# Altium schematic symbol library Components.SchLib: 47 symbols
Pins are listed as number, name and electrical type; pins without a type are passive.

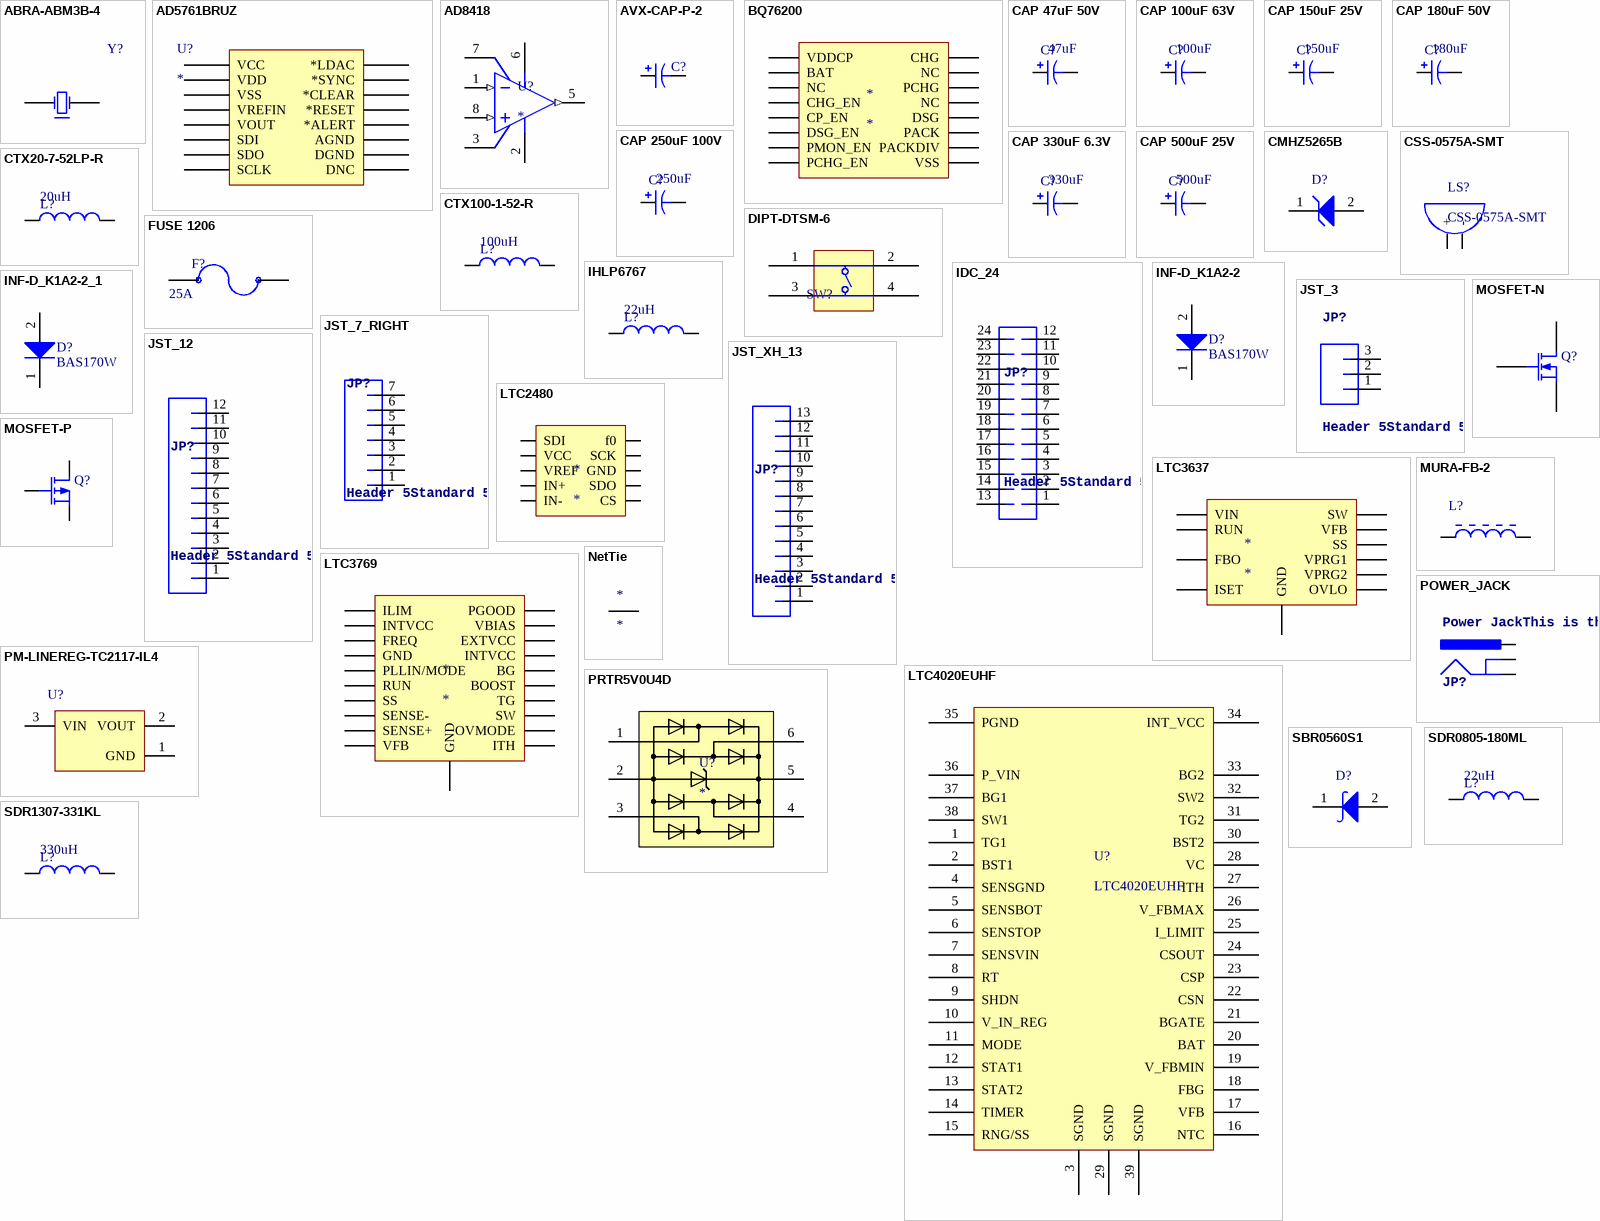
[diagram p0: symbols ABRA-ABM3B-4 to SDR1307-331KL]

## ABRA-ABM3B-4
designator Y?
PartNumber: ABM3B-8.000MHZ-10-1UT; Manufacturer: ABRACON; Mounting Technology: Surface Mount; PackageReference: 2012; PackageDescription: 2012 (5032 metric)
footprint ABRA-ABM3B-4_V (SMT Crystal, 4-Leads, Body 5.2x3.4mm)
pins: 1 X1, 2, 3 X2

## AD5761BRUZ
designator U?
Imported; RefDes: RefDes; Type: DEV; Value: Value
footprint RU_16
pins: 1 *ALERT, 2 *CLEAR, 3 *RESET, 4 VREFIN, 5 AGND, 6 VSS, 7 VOUT, 8 VDD, 9 DNC, 10 SDO, 11 *LDAC, 12 SDI, 13 *SYNC, 14 SCLK, 15 VCC, 16 DGND

## AD8418
designator U?
footprint MSOP-8 (SOP, 8-Leads, Body 3x3mm, Pitch 0.65mm, IPC Medium Density)
pins: 1 IN- (in), 2 GND (power), 3 VREF2, 5 OUT (out), 6 VS (power), 7 VREF1, 8 IN+ (in)

## AVX-CAP-P-2
designator C?
footprint AVX-CAPC7343_V (SMT Capacitor, 2 Leads, Body 7.3x4.3mm)
pins: 1, 2

## BQ76200
designator *
footprint RU_16
pins: 1 VDDCP, 2 BAT, 3 NC, 4 CHG_EN, 5 CP_EN, 6 DSG_EN, 7 PMON_EN, 8 PCHG_EN, 9 VSS, 10 PACKDIV, 11 PACK, 12 DSG, 13 NC, 14 PCHG, 15 NC, 16 CHG

## CAP 47uF 50V
designator C?  value 47uF
Polarized Capacitor (Axial); Published: 8-Jun-2000; LatestRevisionDate: 17-Jul-2002; LatestRevisionNote: Re-released for DXP Platform.; PackageReference: POLAR0.8; Publisher: Altium Limited; PackageDescription: Polarized Capacitor; 2 Leads
simulation model CAP (Capacitor)
signal-integrity model Cap Pol
footprint CAP 300uF 6.3V
pins: 1, 2
1 alternate drawing of the same symbol

## CAP 100uF 63V
designator C?  value 100uF
Polarized Capacitor (Axial); Published: 8-Jun-2000; LatestRevisionDate: 17-Jul-2002; LatestRevisionNote: Re-released for DXP Platform.; PackageReference: POLAR0.8; Publisher: Altium Limited; PackageDescription: Polarized Capacitor; 2 Leads
simulation model CAP (Capacitor)
signal-integrity model Cap Pol
footprint CAP 180uF 50V
pins: 1, 2
1 alternate drawing of the same symbol

## CAP 150uF 25V
designator C?  value 150uF
Polarized Capacitor (Axial); Published: 8-Jun-2000; LatestRevisionDate: 17-Jul-2002; LatestRevisionNote: Re-released for DXP Platform.; PackageReference: POLAR0.8; Publisher: Altium Limited; PackageDescription: Polarized Capacitor; 2 Leads
simulation model CAP (Capacitor)
signal-integrity model Cap Pol
footprint CAP 150uF 25V
pins: 1, 2
1 alternate drawing of the same symbol

## CAP 180uF 50V
designator C?  value 180uF
Polarized Capacitor (Axial); Published: 8-Jun-2000; LatestRevisionDate: 17-Jul-2002; LatestRevisionNote: Re-released for DXP Platform.; PackageReference: POLAR0.8; Publisher: Altium Limited; PackageDescription: Polarized Capacitor; 2 Leads
simulation model CAP (Capacitor)
signal-integrity model Cap Pol
footprint CAP 180uF 50V
pins: 1, 2
1 alternate drawing of the same symbol

## CAP 250uF 100V
designator C?  value 250uF
Polarized Capacitor (Axial); Published: 8-Jun-2000; LatestRevisionDate: 17-Jul-2002; LatestRevisionNote: Re-released for DXP Platform.; PackageReference: POLAR0.8; Publisher: Altium Limited; PackageDescription: Polarized Capacitor; 2 Leads
simulation model CAP (Capacitor)
signal-integrity model Cap Pol
footprint 250uF 100V
pins: 1, 2
1 alternate drawing of the same symbol

## CAP 330uF 6.3V
designator C?  value 330uF
Polarized Capacitor (Axial); Published: 8-Jun-2000; LatestRevisionDate: 17-Jul-2002; LatestRevisionNote: Re-released for DXP Platform.; PackageReference: POLAR0.8; Publisher: Altium Limited; PackageDescription: Polarized Capacitor; 2 Leads
simulation model CAP (Capacitor)
signal-integrity model Cap Pol
footprint CAP 300uF 6.3V
pins: 1, 2
1 alternate drawing of the same symbol

## CAP 500uF 25V
designator C?  value 500uF
Polarized Capacitor (Axial); Published: 8-Jun-2000; LatestRevisionDate: 17-Jul-2002; LatestRevisionNote: Re-released for DXP Platform.; PackageReference: POLAR0.8; Publisher: Altium Limited; PackageDescription: Polarized Capacitor; 2 Leads
simulation model CAP (Capacitor)
signal-integrity model Cap Pol
footprint 500uF 25V
pins: 1, 2
1 alternate drawing of the same symbol

## CMHZ5265B
designator D?
footprint SOD-123 (SOD, 2-Leads, Body 2.69x1.6mm)
pins: 1 K, 2 A

## CSS-0575A-SMT
designator LS?
Magnetic Buzzer Transducer; Manufacturer: CUI, Inc.; PartNumber: CSS-0575A-SMT; Mounting Technology: Surface Mount; PackageReference: 5x5x1.9mm
footprint CSS-0575A-SMT
pins: 1 +, 2 -

## CTX20-7-52LP-R
designator L?  value 20uH
Inductor; Code_IEC: 1005; Published: 8-Jun-2000; LatestRevisionDate: 29-May-2009; LatestRevisionNote: IPC-7351 Footprint Added.; PackageReference: 0402-A; Publisher: Altium Limited; PackageDescription: Chip Inductor; Code_JEITA: 0402
simulation model INDUCTOR (Inductor)
signal-integrity model Inductor
footprint Inductor_LR
pins: 1, 2

## CTX100-1-52-R
designator L?  value 100uH
Inductor; Code_IEC: 1005; Published: 8-Jun-2000; LatestRevisionDate: 29-May-2009; LatestRevisionNote: IPC-7351 Footprint Added.; PackageReference: 0402-A; Publisher: Altium Limited; PackageDescription: Chip Inductor; Code_JEITA: 0402
simulation model INDUCTOR (Inductor)
signal-integrity model Inductor
footprint Inductor_R
pins: 1, 2

## DIPT-DTSM-6
designator SW?  (value not drawn)
Manufacturer: Wurth; PartNumber: 430182050816
footprint SWITCH
pins: 1, 2, 3, 4

## FUSE 1206
designator F?  Current: 25A
Surface Mount Fuses UST 1206 FUSE 25A F; PartNumber: 3413.0332.22; Manufacturer: Schurter; Mounting Technology: Surface Mount; PackageReference: 1206; PackageDescription: 1206 (3216 Metric)
footprint 1206_FUSE
pins: 1, 2

## IDC_24
designator JP?, comment Header 5Standard 5-pin 0.1" header. Use with straight break away headers (SKU : PRT-00116), right angle break away headers (PRT-00553), swiss pins (PRT-00743), machine pins (PRT-00117), and female headers (PRT-00115). Molex polarized connector foot print use with SKU : PRT-08230 with associated crimp pins and housings.
footprint JST-13-PTH-VERT
pins: 1, 2, 3, 4, 5, 6, 7, 8, 9, 10, 11, 12, 13, 14, 15, 16, 17, 18, 19, 20, 21, 22, 23, 24

## IHLP6767
designator L?  value 22uH
Inductor; Code_IEC: 1005; Published: 8-Jun-2000; LatestRevisionDate: 29-May-2009; LatestRevisionNote: IPC-7351 Footprint Added.; PackageReference: 0402-A; Publisher: Altium Limited; PackageDescription: Chip Inductor; Code_JEITA: 0402
simulation model INDUCTOR (Inductor)
signal-integrity model Inductor
footprint IHLP-6767GZ
pins: 1, 2

## INF-D_K1A2-2
designator D?, comment BAS170W
Silicon Schottky Diode, -55 to 125 degC, SOD323, Reel, Green; Manufacturer: Infineon; Green: TRUE; VF (max): 1,000Â mV; VR (max): 70Â V; Configuration: Single; CT (max): 2Â pF; IF (max): 70Â mA; PackageReference: SOD323; PartNumber: BAS170W; ComponentLink3URL: http://www.infineon.com/dgdl/SOD323-Package_Overview.pdf?folderId=db3a30431936bc4b011952aab84f3bbe&fileId=db3a30431936bc4b011952beed653be3; PackageDescription: 2-Pin Small Outline Diode Package, 1.25 x 1.7 mm Body; ComponentLink2URL: http://www.infineon.com/dgdl/bas70_bas170series.pdf?folderId=db3a30431400ef68011425f1ca2505e3&fileId=db3a304314dca389011518ad41680e12; ComponentLink3Description: Package Specification; ComponentLink1URL: http://www.infineon.com/; ComponentLink1Description: Manufacturer URL; Packing: Reel; ComponentLink2Description: Datasheet; Mounting Technology: Surface Mount
footprint INF-SOD323_V (SOD, 2-Leads, Body 1.7x1.25 mm)
pins: 1 K, 2 A

## INF-D_K1A2-2_1
designator D?, comment BAS170W
Silicon Schottky Diode, -55 to 125 degC, SOD323, Reel, Green; Manufacturer: Infineon; Green: TRUE; VF (max): 1,000Â mV; VR (max): 70Â V; Configuration: Single; CT (max): 2Â pF; IF (max): 70Â mA; PackageReference: SOD323; PartNumber: BAS170W; ComponentLink3URL: http://www.infineon.com/dgdl/SOD323-Package_Overview.pdf?folderId=db3a30431936bc4b011952aab84f3bbe&fileId=db3a30431936bc4b011952beed653be3; PackageDescription: 2-Pin Small Outline Diode Package, 1.25 x 1.7 mm Body; ComponentLink2URL: http://www.infineon.com/dgdl/bas70_bas170series.pdf?folderId=db3a30431400ef68011425f1ca2505e3&fileId=db3a304314dca389011518ad41680e12; ComponentLink3Description: Package Specification; ComponentLink1URL: http://www.infineon.com/; ComponentLink1Description: Manufacturer URL; Packing: Reel; ComponentLink2Description: Datasheet; Mounting Technology: Surface Mount
footprint INF-SOD323_V (SOD, 2-Leads, Body 1.7x1.25 mm)
pins: 1 K, 2 A

## JST_3
designator JP?, comment Header 5Standard 5-pin 0.1" header. Use with straight break away headers (SKU : PRT-00116), right angle break away headers (PRT-00553), swiss pins (PRT-00743), machine pins (PRT-00117), and female headers (PRT-00115). Molex polarized connector foot print use with SKU : PRT-08230 with associated crimp pins and housings.
footprint JST-3-PTH
footprint JST-3-PTH-VERT
pins: 1, 2, 3

## JST_7_RIGHT
designator JP?, comment Header 5Standard 5-pin 0.1" header. Use with straight break away headers (SKU : PRT-00116), right angle break away headers (PRT-00553), swiss pins (PRT-00743), machine pins (PRT-00117), and female headers (PRT-00115). Molex polarized connector foot print use with SKU : PRT-08230 with associated crimp pins and housings.
footprint JST-7-PTH
pins: 1, 2, 3, 4, 5, 6, 7

## JST_12
designator JP?, comment Header 5Standard 5-pin 0.1" header. Use with straight break away headers (SKU : PRT-00116), right angle break away headers (PRT-00553), swiss pins (PRT-00743), machine pins (PRT-00117), and female headers (PRT-00115). Molex polarized connector foot print use with SKU : PRT-08230 with associated crimp pins and housings.
footprint JST-12-PTH
footprint JST-6-PTH-VERT
pins: 1, 2, 3, 4, 5, 6, 7, 8, 9, 10, 11, 12

## JST_XH_13
designator JP?, comment Header 5Standard 5-pin 0.1" header. Use with straight break away headers (SKU : PRT-00116), right angle break away headers (PRT-00553), swiss pins (PRT-00743), machine pins (PRT-00117), and female headers (PRT-00115). Molex polarized connector foot print use with SKU : PRT-08230 with associated crimp pins and housings.
footprint JST-13-PTH-VERT
pins: 1, 2, 3, 4, 5, 6, 7, 8, 9, 10, 11, 12, 13

## LTC2480
designator *
footprint MSOP10
pins: 0 SDI, 1 VCC, 2 VREF, 3 IN+, 4 IN-, 5 f0, 6 SCK, 7 GND, 8 SDO, 9 CS

## LTC3637
designator *
footprint SON50P300X85_HS-17N (SON, 16-Leads, Body 5.00x3.00mm, Pitch 0.50mm, Thermal Pad 4.40x1.49mm, IPC Medium Density); pin to pad 17>8+16+17
pins: 1 SW, 3 VIN, 5 FBO, 6 VPRG2, 7 VPRG1, 9 VFB, 10 SS, 11 ISET, 12 OVLO, 14 RUN, 17 GND

## LTC3769
designator *
footprint TSOP65P640X120_HS-21N (TSOP, 20-Leads, Body 6.50x4.40mm, Pitch 0.65mm, Thermal Pad 6.07x2.74mm, IPC Medium Density); pin to pad 2>2+17 4>4+21 17>2+17 21>4+21
pins: 1 ILIM, 2 INTVCC, 3 FREQ, 4 GND, 5 PLLIN/MODE, 6 RUN, 7 SS, 8 SENSE-, 9 SENSE+, 10 VFB, 11 ITH, 12 OVMODE, 13 SW, 14 TG, 15 BOOST, 16 BG, 17 INTVCC, 18 EXTVCC, 19 VBIAS, 20 PGOOD, 21 GND

## LTC4020EUHF
designator U?
footprint QFN38 (QFN, 38-Leads, Body 5,00x7,00mm, Pitch 0,50mm, Thermal Pad 3,25x5,75mm, IPC Medium Density)
pins: 1 TG1, 2 BST1, 3 SGND, 4 SENSGND, 5 SENSBOT, 6 SENSTOP, 7 SENSVIN, 8 RT, 9 SHDN, 10 V_IN_REG, 11 MODE, 12 STAT1, 13 STAT2, 14 TIMER, 15 RNG/SS, 16 NTC, 17 VFB, 18 FBG, 19 V_FBMIN, 20 BAT, 21 BGATE, 22 CSN, 23 CSP, 24 CSOUT, 25 I_LIMIT, 26 V_FBMAX, 27 ITH, 28 VC, 29 SGND, 30 BST2, 31 TG2, 32 SW2, 33 BG2, 34 INT_VCC, 35 PGND, 36 P_VIN, 37 BG1, 38 SW1, 39 SGND

## MOSFET-N
designator Q?  (value not drawn)
N-Channel MOSFET; Published: 8-Jun-2000; LatestRevisionDate: 17-Jul-2002; LatestRevisionNote: Re-released for DXP Platform.; PackageVersion: 1995/1996; PackageReference: E3; Publisher: Altium Limited; PackageDescription: TO, Flat Index; 3 In-Line, Axial Leads; Body Dia. 4.6mm; Lead Dia. 0.5 mm (max)
footprint SOT23-3
footprint SOIC127P600X175-8N (SOIC, 8-Leads, Body 4.90x3.90mm, Pitch 1.27mm, IPC Medium Density); pin to pad 1>2 2>3 3>1
footprint DPAK127P1525X483-7N (D2-PAK, 7-Pads, Body 7.93x8.63mm (max), IPC Medium Density)
pins: 1 G, 2 D, 3 S

## MOSFET-P
designator Q?  (value not drawn)
P-Channel MOSFET; Published: 8-Jun-2000; LatestRevisionDate: 17-Jul-2002; LatestRevisionNote: Re-released for DXP Platform.; PackageVersion: 1995/1996; PackageReference: E3; Publisher: Altium Limited; PackageDescription: TO, Flat Index; 3 In-Line, Axial Leads; Body Dia. 4.6mm; Lead Dia. 0.5 mm (max)
footprint SOT23-3
footprint SOIC127P600X175-8N (SOIC, 8-Leads, Body 4.90x3.90mm, Pitch 1.27mm, IPC Medium Density); pin to pad 1>2 2>3 3>1
pins: 1 G, 2 D, 3 S

## MURA-FB-2
designator L?
EMI Filter Beads, Chips & Arrays 1206 33 OHM; PartNumber: BLM31PG330SN1L; Manufacturer: Murata; Mounting Technology: Surface Mount; PackageReference: 1206; PackageDescription: 1206 (3216 Metric)
footprint MURA-BLM31-B60-CHIP-2_V3 (Chip Ferrite Bead, 2-Leads, Body 3.2x1.6mm, Height 1.3mm, 70um Land Pad Thickness, 6A Rated Current)
pins: 1, 2

## NetTie
designator *  (net tie, no BOM)
footprint NetTie
pins: 1, 2

## PM-LINEREG-TC2117-IL4
designator U?
footprint SOT-223-DB3_M (SOT223, 4-Leads, Body 6.5x3.5mm, Pitch 2.3mm, Lead Span 7mm, IPC Low Density)
footprint SOT-223-DB3_M (SOT223, 4-Leads, Body 6.5x3.5mm, Pitch 2.3mm, Lead Span 7mm, IPC Low Density)
pins: 1 GND (power), 2 VOUT (power), 3 VIN (power)

## POWER_JACK
designator JP?, comment Power JackThis is the standard 5.5mm barrel jack for power. The PTH is the most common, proven, reliable, footprint. The Slot footprint only works if the mill layer is transmitted to the PCB fab house so be warned. Mating wall wart : TOL-00298 (and others)
footprint POWER_JACK
pins: 1 PWR, 2 GND, 3 GND

## PRTR5V0U4D
designator U?
footprint SOT457
pins: 1, 2, 3, 4, 5, 6

## SBR0560S1
designator D?
footprint SOD-123 (SOD, 2-Leads, Body 2.69x1.6mm)
pins: 1 K, 2 A

## SDR0805-180ML
designator L?  value 22uH
Inductor; Code_IEC: 1005; Published: 8-Jun-2000; LatestRevisionDate: 29-May-2009; LatestRevisionNote: IPC-7351 Footprint Added.; PackageReference: 0402-A; Publisher: Altium Limited; PackageDescription: Chip Inductor; Code_JEITA: 0402
simulation model INDUCTOR (Inductor)
signal-integrity model Inductor
footprint SDR0805-180ML
footprint IHLP-4040DZ-51
pins: 1, 2

## SDR1307-331KL
designator L?  value 330uH
Inductor; Code_IEC: 1005; Published: 8-Jun-2000; LatestRevisionDate: 29-May-2009; LatestRevisionNote: IPC-7351 Footprint Added.; PackageReference: 0402-A; Publisher: Altium Limited; PackageDescription: Chip Inductor; Code_JEITA: 0402
signal-integrity model Inductor
footprint SDR1307
pins: 1, 2

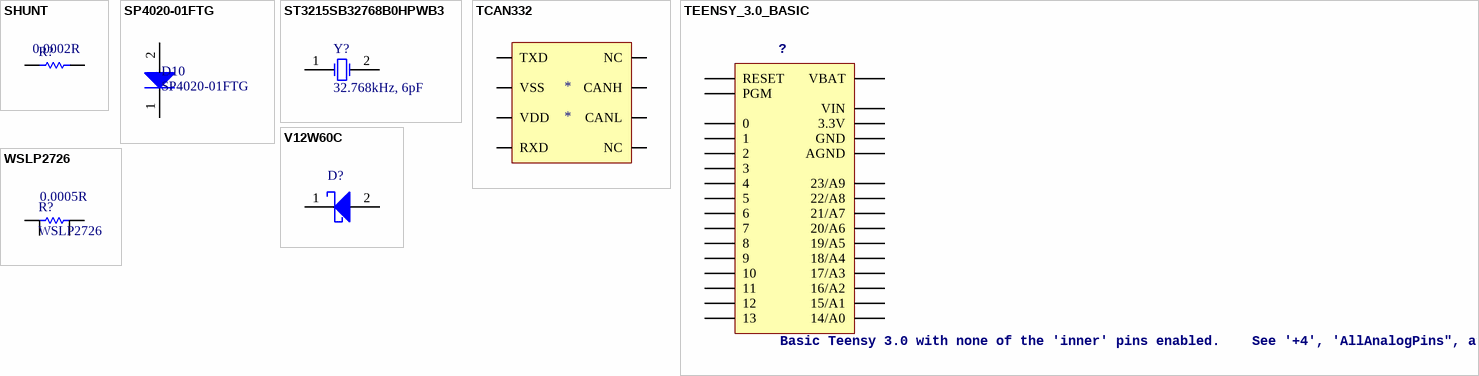
[diagram p1: symbols SHUNT to WSLP2726]

## SHUNT
designator R?  value 0.0002R
Resistor; Published: 8-Jun-2000; LatestRevisionDate: 17-Jul-2002; LatestRevisionNote: Re-released for DXP Platform.; PackageReference: AXIAL-0.3; Publisher: Altium Limited; PackageDescription: Axial Device, Thru-Hole; 2 Leads; 0.3 in Pin Spacing
simulation model RESISTOR (Resistor)
signal-integrity model Res
footprint WSLP5931
pins: 1, 2

## SP4020-01FTG
designator D10
PartNumber: MMSZ5262BT1G; Manufacturer: On Semiconductor; P Max (W): 0.5; Packing: Tape and Reel; VZ Typ (V): 51; PackageVersion: Rev. G, 10/2009; ComponentLink3Description: Package Specification; PackageReference: SOD-123-2-425-04; PackageDescription: 2-Pin SOD, Body 1.6 x 2.69 mm; ComponentLink1Description: Manufacturer URL; ComponentLink2Description: Datasheet; DatasheetVersion: Rev. 12; Mounting Technology: Surface Mount; RoHS: Pb-Free; ComponentLink1URL: http://www.onsemi.com/; ComponentLink3URL: http://www.onsemi.com/pub_link/Collateral/425-04.PDF; ComponentLink2URL: http://www.onsemi.com/pub_link/Collateral/MMSZ5221BT1-D.PDF
footprint SOD323 (SODFL, 2-Leads, Body 1.30x2.57mm, IPC Medium Density)
pins: 1 K, 2 A

## ST3215SB32768B0HPWB3
designator Y?, comment 32.768kHz, 6pF
32.768kHz ±20ppm Crystal 6pF 60 kOhm -40°C ~ 85°C Surface Mount 2-SMD, No Lead (DFN, LCC); Manufacturer: AVX/Kyocera; PartNumber: ST3215SB32768B0HPWB3; PackageReference: ST3215SB; Mounting Technology: Surface Mount; PackageDescription: 2-SMD, No Lead (DFN, LCC)
footprint ST3215SB (Crystal, 2-Leads, Body 3.2x1.5mm, Pitch 2.5mm)
pins: 1 X1, 2 X2

## TCAN332
designator *
footprint SOIC8 (SOIC, 8-Leads, Body 4.90x3.90mm, Pitch 1.27mm, IPC Medium Density)
footprint SOT65P280X145-6N (SOT23, 6-Leads, Body 2.90x2.80mm, Pitch 0.65mm, IPC Medium Density)
pins: 1 TXD, 2 VSS, 3 VDD, 4 RXD, 5 NC, 6 CANL, 7 CANH, 8 NC

## TEENSY_3.0_BASIC
designator ?, comment Basic Teensy 3.0 with none of the 'inner' pins enabled.    See '+4', 'AllAnalogPins", and 'AllPins' packages for additional pin holes, as needed.
footprint TEENSY_3.0_BASIC; pin to pad 3.3V 3.3V1>3.3V+3.3V1 GND GND1>GND+GND1
pins: 0, 1, 2, 3, 3.3V 3.3V1 3.3V (power), 4, 5, 6, 7, 8, 9, 10, 11, 12, 13, 14/A0, 15/A1, 16/A2, 17/A3, 18/A4, 19/A5, 20/A6, 21/A7, 22/A8, 23/A9, AGND (power), GND GND1 GND (power), PGM, RESET, VBAT (power), VIN (power)

## V12W60C
designator D?
footprint DPAK229P1003X238-3N (D-PAK, 3-Pads, Body 6.21x6.73mm (max), IPC Medium Density); pin to pad 1>2 2>1
pins: 1 K, 2 A

## WSLP2726
designator R?  value 0.0005R
Current Sense Resistor, 0.0005R; PartNumber: WSLP2726L5000FEA; Manufacturer: Vishay / Dale; Power: 7W; Tolerance: 1%; PackageReference: 2726; Mounting Technology: Surface Mount
simulation model RESISTOR (Resistor)
signal-integrity model Res
footprint WSL2726
pins: 1, 2, 3, 4